# Altium schematic symbol library schematic of amc1100.SchLib: 1 symbol
Pins are listed as number, name and electrical type; pins without a type are passive.

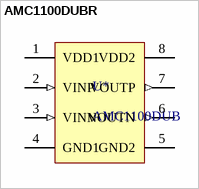
[diagram p0: symbol AMC1100DUBR]

## AMC1100DUBR
designator U*, comment AMC1100DUB
IC OPAMP ISOLATION 100KHZ 8SOP; Mfr1: Texas Instruments; Mfr1 PN: AMC1100DUB
footprint AMC1100DUB (IC OPAMP ISOLATION 100KHZ 8SOP footprint)
pins: 1 VDD1 (power), 2 VINP (in), 3 VINN (in), 4 GND1 (power), 5 GND2 (power), 6 VOUTN (out), 7 VOUTP (out), 8 VDD2 (power)